# Altium integrated library LM35DZ_LFT4.IntLib: 1 symbol
Pins are listed as number, name and electrical type; pins without a type are passive.

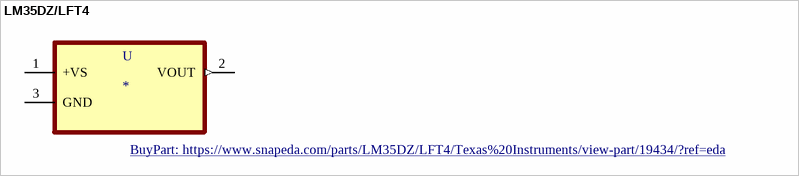
[diagram p0: symbol LM35DZ/LFT4]

## LM35DZ/LFT4
designator U
&plusmn;0.5&deg;C 4V-30V, Temperature sensor with analog output 3-TO-92; MF: Texas Instruments; MP: LM35DZ/LFT4; Texas_Instruments-Purchase-URL: https://snapeda.com/shop?store=Texas+Instruments&id=19434; Availability: Warning; Mouser-Purchase-URL: https://snapeda.com/shop?store=Mouser&id=19434; Price: None; DigiKey-Purchase-URL: https://snapeda.com/shop?store=DigiKey&id=19434; Package: TO-92-3 Texas Instruments; Value: *; SnapEDA_Link: https://www.snapeda.com/parts/LM35DZ/LFT4/Texas%20Instruments/view-part/19434/?ref=snap; BuyPart: https://www.snapeda.com/parts/LM35DZ/LFT4/Texas%20Instruments/view-part/19434/?ref=eda
footprint TO127P254X495-3P
pins: 1 +VS (power), 2 VOUT (out), 3 GND